# EAGLE library part KMZ41-SO8 (library shmuma)
Magnetic field sensor
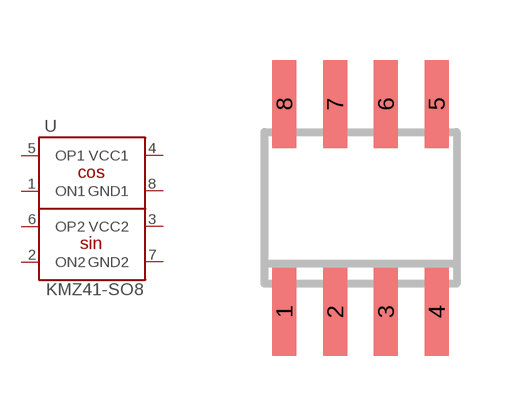
[diagram p0: symbol with the pads of SO-08; footprint SO-08]

Designator prefix -

## KMZ41-SO8-SOT96-1  [SO-08]
1  ON1
2  ON2
3  VCC2  pwr
4  VCC1  pwr
5  OP1
6  OP2
7  GND2  pwr
8  GND1  pwr

## Footprint SO-08 (pad centres in mm)
Small Outline Narrow Plastic Gull Wing 150-mil body, package type SN
smd 0.6 x 2.2: 1 -1.905,-2.6; 2 -0.635,-2.6; 3 0.635,-2.6; 4 1.905,-2.6; 5 1.905,2.6; 6 0.635,2.6; 7 -0.635,2.6; 8 -1.905,2.6